# Altium integrated library National Semiconductor LDO.IntLib: 2675 symbols (part 43 of 65)
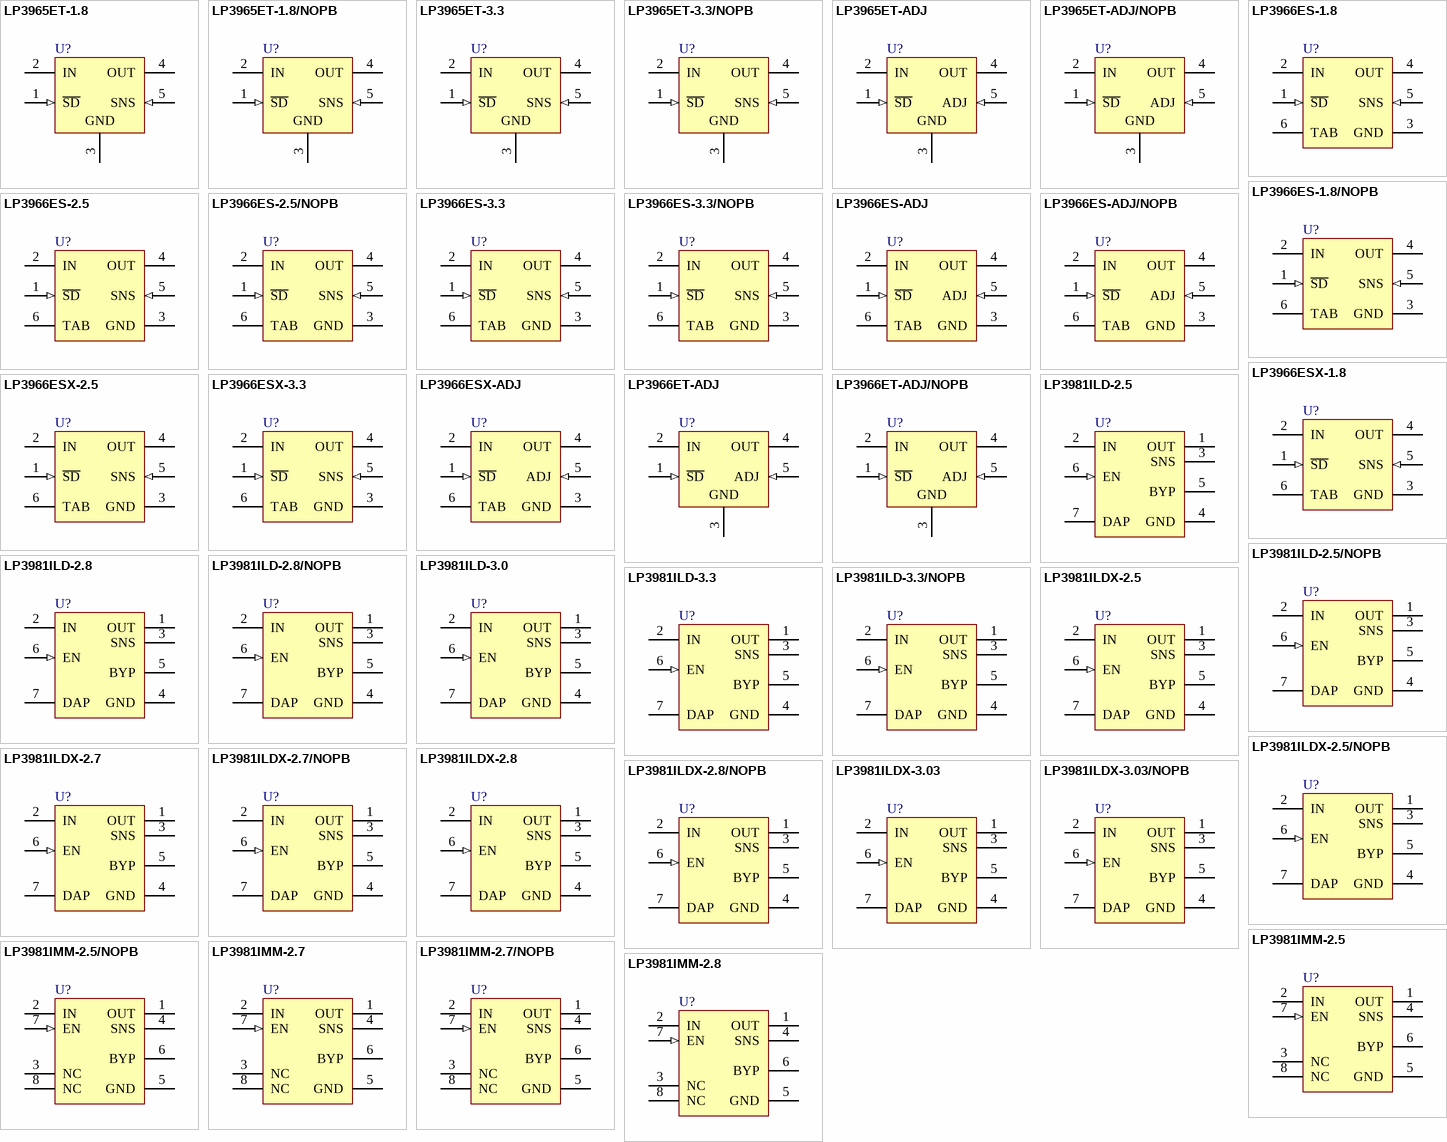
[diagram p109: symbols LP3965ET-1.8 to LP3981IMM-2.8]

## LP3981ILD-2.5
designator U?
Micropower, 300mA Ultra Low-Dropout CMOS Voltage Regulator, 6-pin LLP; PartNumber: LP3981ILD-2.5; Manufacturer: National Semiconductor; PackageTopMarking: ZXYTT*LO1UB; PowerWise: N; CompType: LDO IC; High-Reliability: Y; DatasheetVersion: Apr-2005; PackageVersion: revB, Nov-2002; PackageReference: LDC06D; PackageDescription: LLP, Plastic, Dual, 3 x 4 x 0.75mm Body, 6 Lead, 0.8mm Pitch; RoHS: N; PinCount: 6; ComponentLink1Description: Manufacturer URL; ComponentLink1URL: http://www.national.com/; ComponentLink2Description: LP3981 Datasheet; ComponentLink2URL: http://www.national.com/ds/LP/LP3981.pdf; ComponentLink3Description: LP3981 Web Page; ComponentLink3URL: http://www.national.com/pf/LP/LP3981.html; ComponentLink4Description: LDC06D Package Page; ComponentLink4URL: http://www.national.com/packaging/folders/ldc06d.html
footprint LDC06D (PSON, 6-Leads, Body 3x4 mm, Pitch 0.8mm, NSC Recommended)
pins: 1 OUT (power), 2 IN (power), 3 SNS, 4 GND (power), 5 BYP, 6 EN (in), 7 DAP

## LP3981ILD-2.5/NOPB
designator U?
Micropower, 300mA Ultra Low-Dropout CMOS Voltage Regulator, 6-pin LLP, Pb-Free; PartNumber: LP3981ILD-2.5/NOPB; Manufacturer: National Semiconductor; PackageTopMarking: ZXYTT*LO1UB; PowerWise: N; CompType: LDO IC; High-Reliability: Y; DatasheetVersion: Apr-2005; PackageVersion: revB, Nov-2002; PackageReference: LDC06D; PackageDescription: LLP, Plastic, Dual, 3 x 4 x 0.75mm Body, 6 Lead, 0.8mm Pitch; RoHS: Y; PinCount: 6; ComponentLink1Description: Manufacturer URL; ComponentLink1URL: http://www.national.com/; ComponentLink2Description: LP3981 Datasheet; ComponentLink2URL: http://www.national.com/ds/LP/LP3981.pdf; ComponentLink3Description: LP3981 Web Page; ComponentLink3URL: http://www.national.com/pf/LP/LP3981.html; ComponentLink4Description: LDC06D Package Page; ComponentLink4URL: http://www.national.com/packaging/folders/ldc06d.html
footprint LDC06D (PSON, 6-Leads, Body 3x4 mm, Pitch 0.8mm, NSC Recommended)
pins: 1 OUT (power), 2 IN (power), 3 SNS, 4 GND (power), 5 BYP, 6 EN (in), 7 DAP

## LP3981ILD-2.8
designator U?
Micropower, 300mA Ultra Low-Dropout CMOS Voltage Regulator, 6-pin LLP; PartNumber: LP3981ILD-2.8; Manufacturer: National Semiconductor; PackageTopMarking: ZXYTT*L01ZB; PowerWise: N; CompType: LDO IC; High-Reliability: Y; DatasheetVersion: Apr-2005; PackageVersion: revB, Nov-2002; PackageReference: LDC06D; PackageDescription: LLP, Plastic, Dual, 3 x 4 x 0.75mm Body, 6 Lead, 0.8mm Pitch; RoHS: Y; PinCount: 6; ComponentLink1Description: Manufacturer URL; ComponentLink1URL: http://www.national.com/; ComponentLink2Description: LP3981 Datasheet; ComponentLink2URL: http://www.national.com/ds/LP/LP3981.pdf; ComponentLink3Description: LP3981 Web Page; ComponentLink3URL: http://www.national.com/pf/LP/LP3981.html; ComponentLink4Description: LDC06D Package Page; ComponentLink4URL: http://www.national.com/packaging/folders/ldc06d.html
footprint LDC06D (PSON, 6-Leads, Body 3x4 mm, Pitch 0.8mm, NSC Recommended)
pins: 1 OUT (power), 2 IN (power), 3 SNS, 4 GND (power), 5 BYP, 6 EN (in), 7 DAP

## LP3981ILD-2.8/NOPB
designator U?
Micropower, 300mA Ultra Low-Dropout CMOS Voltage Regulator, 6-pin LLP, Pb-Free; PartNumber: LP3981ILD-2.8/NOPB; Manufacturer: National Semiconductor; PackageTopMarking: ZXYTT*L01ZB; PowerWise: N; CompType: LDO IC; High-Reliability: Y; DatasheetVersion: Apr-2005; PackageVersion: revB, Nov-2002; PackageReference: LDC06D; PackageDescription: LLP, Plastic, Dual, 3 x 4 x 0.75mm Body, 6 Lead, 0.8mm Pitch; RoHS: Y; PinCount: 6; ComponentLink1Description: Manufacturer URL; ComponentLink1URL: http://www.national.com/; ComponentLink2Description: LP3981 Datasheet; ComponentLink2URL: http://www.national.com/ds/LP/LP3981.pdf; ComponentLink3Description: LP3981 Web Page; ComponentLink3URL: http://www.national.com/pf/LP/LP3981.html; ComponentLink4Description: LDC06D Package Page; ComponentLink4URL: http://www.national.com/packaging/folders/ldc06d.html
footprint LDC06D (PSON, 6-Leads, Body 3x4 mm, Pitch 0.8mm, NSC Recommended)
pins: 1 OUT (power), 2 IN (power), 3 SNS, 4 GND (power), 5 BYP, 6 EN (in), 7 DAP

## LP3981ILD-3.0
designator U?
Micropower, 300mA Ultra Low-Dropout CMOS Voltage Regulator, 6-pin LLP; PartNumber: LP3981ILD-3.0; Manufacturer: National Semiconductor; PackageTopMarking: ZXYTT*L017B; PowerWise: N; CompType: LDO IC; High-Reliability: Y; DatasheetVersion: Apr-2005; PackageVersion: revB, Nov-2002; PackageReference: LDC06D; PackageDescription: LLP, Plastic, Dual, 3 x 4 x 0.75mm Body, 6 Lead, 0.8mm Pitch; RoHS: N; PinCount: 6; ComponentLink1Description: Manufacturer URL; ComponentLink1URL: http://www.national.com/; ComponentLink2Description: LP3981 Datasheet; ComponentLink2URL: http://www.national.com/ds/LP/LP3981.pdf; ComponentLink3Description: LP3981 Web Page; ComponentLink3URL: http://www.national.com/pf/LP/LP3981.html; ComponentLink4Description: LDC06D Package Page; ComponentLink4URL: http://www.national.com/packaging/folders/ldc06d.html
footprint LDC06D (PSON, 6-Leads, Body 3x4 mm, Pitch 0.8mm, NSC Recommended)
pins: 1 OUT (power), 2 IN (power), 3 SNS, 4 GND (power), 5 BYP, 6 EN (in), 7 DAP

## LP3981ILD-3.3
designator U?
Micropower, 300mA Ultra Low-Dropout CMOS Voltage Regulator, 6-pin LLP; PartNumber: LP3981ILD-3.3; Manufacturer: National Semiconductor; PackageTopMarking: ZXYTT*LO1XB; PowerWise: N; CompType: LDO IC; High-Reliability: Y; DatasheetVersion: Apr-2005; PackageVersion: revB, Nov-2002; PackageReference: LDC06D; PackageDescription: LLP, Plastic, Dual, 3 x 4 x 0.75mm Body, 6 Lead, 0.8mm Pitch; RoHS: N; PinCount: 6; ComponentLink1Description: Manufacturer URL; ComponentLink1URL: http://www.national.com/; ComponentLink2Description: LP3981 Datasheet; ComponentLink2URL: http://www.national.com/ds/LP/LP3981.pdf; ComponentLink3Description: LP3981 Web Page; ComponentLink3URL: http://www.national.com/pf/LP/LP3981.html; ComponentLink4Description: LDC06D Package Page; ComponentLink4URL: http://www.national.com/packaging/folders/ldc06d.html
footprint LDC06D (PSON, 6-Leads, Body 3x4 mm, Pitch 0.8mm, NSC Recommended)
pins: 1 OUT (power), 2 IN (power), 3 SNS, 4 GND (power), 5 BYP, 6 EN (in), 7 DAP

## LP3981ILD-3.3/NOPB
designator U?
Micropower, 300mA Ultra Low-Dropout CMOS Voltage Regulator, 6-pin LLP, Pb-Free; PartNumber: LP3981ILD-3.3/NOPB; Manufacturer: National Semiconductor; PackageTopMarking: ZXYTT*LO1XB; PowerWise: N; CompType: LDO IC; High-Reliability: Y; DatasheetVersion: Apr-2005; PackageVersion: revB, Nov-2002; PackageReference: LDC06D; PackageDescription: LLP, Plastic, Dual, 3 x 4 x 0.75mm Body, 6 Lead, 0.8mm Pitch; RoHS: Y; PinCount: 6; ComponentLink1Description: Manufacturer URL; ComponentLink1URL: http://www.national.com/; ComponentLink2Description: LP3981 Datasheet; ComponentLink2URL: http://www.national.com/ds/LP/LP3981.pdf; ComponentLink3Description: LP3981 Web Page; ComponentLink3URL: http://www.national.com/pf/LP/LP3981.html; ComponentLink4Description: LDC06D Package Page; ComponentLink4URL: http://www.national.com/packaging/folders/ldc06d.html
footprint LDC06D (PSON, 6-Leads, Body 3x4 mm, Pitch 0.8mm, NSC Recommended)
pins: 1 OUT (power), 2 IN (power), 3 SNS, 4 GND (power), 5 BYP, 6 EN (in), 7 DAP

## LP3981ILDX-2.5
designator U?
Micropower, 300mA Ultra Low-Dropout CMOS Voltage Regulator, 6-pin LLP; PartNumber: LP3981ILDX-2.5; Manufacturer: National Semiconductor; PackageTopMarking: ZXYTT*LO1UB; PowerWise: N; CompType: LDO IC; High-Reliability: Y; DatasheetVersion: Apr-2005; PackageVersion: revB, Nov-2002; PackageReference: LDC06D; PackageDescription: LLP, Plastic, Dual, 3 x 4 x 0.75mm Body, 6 Lead, 0.8mm Pitch; RoHS: N; PinCount: 6; ComponentLink1Description: Manufacturer URL; ComponentLink1URL: http://www.national.com/; ComponentLink2Description: LP3981 Datasheet; ComponentLink2URL: http://www.national.com/ds/LP/LP3981.pdf; ComponentLink3Description: LP3981 Web Page; ComponentLink3URL: http://www.national.com/pf/LP/LP3981.html; ComponentLink4Description: LDC06D Package Page; ComponentLink4URL: http://www.national.com/packaging/folders/ldc06d.html
footprint LDC06D (PSON, 6-Leads, Body 3x4 mm, Pitch 0.8mm, NSC Recommended)
pins: 1 OUT (power), 2 IN (power), 3 SNS, 4 GND (power), 5 BYP, 6 EN (in), 7 DAP

## LP3981ILDX-2.5/NOPB
designator U?
Micropower, 300mA Ultra Low-Dropout CMOS Voltage Regulator, 6-pin LLP, Pb-Free; PartNumber: LP3981ILDX-2.5/NOPB; Manufacturer: National Semiconductor; PackageTopMarking: ZXYTT*LO1UB; PowerWise: N; CompType: LDO IC; High-Reliability: Y; DatasheetVersion: Apr-2005; PackageVersion: revB, Nov-2002; PackageReference: LDC06D; PackageDescription: LLP, Plastic, Dual, 3 x 4 x 0.75mm Body, 6 Lead, 0.8mm Pitch; RoHS: Y; PinCount: 6; ComponentLink1Description: Manufacturer URL; ComponentLink1URL: http://www.national.com/; ComponentLink2Description: LP3981 Datasheet; ComponentLink2URL: http://www.national.com/ds/LP/LP3981.pdf; ComponentLink3Description: LP3981 Web Page; ComponentLink3URL: http://www.national.com/pf/LP/LP3981.html; ComponentLink4Description: LDC06D Package Page; ComponentLink4URL: http://www.national.com/packaging/folders/ldc06d.html
footprint LDC06D (PSON, 6-Leads, Body 3x4 mm, Pitch 0.8mm, NSC Recommended)
pins: 1 OUT (power), 2 IN (power), 3 SNS, 4 GND (power), 5 BYP, 6 EN (in), 7 DAP

## LP3981ILDX-2.7
designator U?
Micropower, 300mA Ultra Low-Dropout CMOS Voltage Regulator, 6-pin LLP; PartNumber: LP3981ILDX-2.7; Manufacturer: National Semiconductor; PackageTopMarking: ZXYTT*LO1VB; PowerWise: N; CompType: LDO IC; High-Reliability: Y; DatasheetVersion: Apr-2005; PackageVersion: revB, Nov-2002; PackageReference: LDC06D; PackageDescription: LLP, Plastic, Dual, 3 x 4 x 0.75mm Body, 6 Lead, 0.8mm Pitch; RoHS: N; PinCount: 6; ComponentLink1Description: Manufacturer URL; ComponentLink1URL: http://www.national.com/; ComponentLink2Description: LP3981 Datasheet; ComponentLink2URL: http://www.national.com/ds/LP/LP3981.pdf; ComponentLink3Description: LP3981 Web Page; ComponentLink3URL: http://www.national.com/pf/LP/LP3981.html; ComponentLink4Description: LDC06D Package Page; ComponentLink4URL: http://www.national.com/packaging/folders/ldc06d.html
footprint LDC06D (PSON, 6-Leads, Body 3x4 mm, Pitch 0.8mm, NSC Recommended)
pins: 1 OUT (power), 2 IN (power), 3 SNS, 4 GND (power), 5 BYP, 6 EN (in), 7 DAP

## LP3981ILDX-2.7/NOPB
designator U?
Micropower, 300mA Ultra Low-Dropout CMOS Voltage Regulator, 6-pin LLP, Pb-Free; PartNumber: LP3981ILDX-2.7/NOPB; Manufacturer: National Semiconductor; PackageTopMarking: ZXYTT*LO1VB; PowerWise: N; CompType: LDO IC; High-Reliability: Y; DatasheetVersion: Apr-2005; PackageVersion: revB, Nov-2002; PackageReference: LDC06D; PackageDescription: LLP, Plastic, Dual, 3 x 4 x 0.75mm Body, 6 Lead, 0.8mm Pitch; RoHS: Y; PinCount: 6; ComponentLink1Description: Manufacturer URL; ComponentLink1URL: http://www.national.com/; ComponentLink2Description: LP3981 Datasheet; ComponentLink2URL: http://www.national.com/ds/LP/LP3981.pdf; ComponentLink3Description: LP3981 Web Page; ComponentLink3URL: http://www.national.com/pf/LP/LP3981.html; ComponentLink4Description: LDC06D Package Page; ComponentLink4URL: http://www.national.com/packaging/folders/ldc06d.html
footprint LDC06D (PSON, 6-Leads, Body 3x4 mm, Pitch 0.8mm, NSC Recommended)
pins: 1 OUT (power), 2 IN (power), 3 SNS, 4 GND (power), 5 BYP, 6 EN (in), 7 DAP

## LP3981ILDX-2.8
designator U?
Micropower, 300mA Ultra Low-Dropout CMOS Voltage Regulator, 6-pin LLP; PartNumber: LP3981ILDX-2.8; Manufacturer: National Semiconductor; PackageTopMarking: ZXYTT*L01ZB; PowerWise: N; CompType: LDO IC; High-Reliability: Y; DatasheetVersion: Apr-2005; PackageVersion: revB, Nov-2002; PackageReference: LDC06D; PackageDescription: LLP, Plastic, Dual, 3 x 4 x 0.75mm Body, 6 Lead, 0.8mm Pitch; RoHS: N; PinCount: 6; ComponentLink1Description: Manufacturer URL; ComponentLink1URL: http://www.national.com/; ComponentLink2Description: LP3981 Datasheet; ComponentLink2URL: http://www.national.com/ds/LP/LP3981.pdf; ComponentLink3Description: LP3981 Web Page; ComponentLink3URL: http://www.national.com/pf/LP/LP3981.html; ComponentLink4Description: LDC06D Package Page; ComponentLink4URL: http://www.national.com/packaging/folders/ldc06d.html
footprint LDC06D (PSON, 6-Leads, Body 3x4 mm, Pitch 0.8mm, NSC Recommended)
pins: 1 OUT (power), 2 IN (power), 3 SNS, 4 GND (power), 5 BYP, 6 EN (in), 7 DAP

## LP3981ILDX-2.8/NOPB
designator U?
Micropower, 300mA Ultra Low-Dropout CMOS Voltage Regulator, 6-pin LLP, Pb-Free; PartNumber: LP3981ILDX-2.8/NOPB; Manufacturer: National Semiconductor; PackageTopMarking: ZXYTT*L01ZB; PowerWise: N; CompType: LDO IC; High-Reliability: Y; DatasheetVersion: Apr-2005; PackageVersion: revB, Nov-2002; PackageReference: LDC06D; PackageDescription: LLP, Plastic, Dual, 3 x 4 x 0.75mm Body, 6 Lead, 0.8mm Pitch; RoHS: Y; PinCount: 6; ComponentLink1Description: Manufacturer URL; ComponentLink1URL: http://www.national.com/; ComponentLink2Description: LP3981 Datasheet; ComponentLink2URL: http://www.national.com/ds/LP/LP3981.pdf; ComponentLink3Description: LP3981 Web Page; ComponentLink3URL: http://www.national.com/pf/LP/LP3981.html; ComponentLink4Description: LDC06D Package Page; ComponentLink4URL: http://www.national.com/packaging/folders/ldc06d.html
footprint LDC06D (PSON, 6-Leads, Body 3x4 mm, Pitch 0.8mm, NSC Recommended)
pins: 1 OUT (power), 2 IN (power), 3 SNS, 4 GND (power), 5 BYP, 6 EN (in), 7 DAP

## LP3981ILDX-3.03
designator U?
Micropower, 300mA Ultra Low-Dropout CMOS Voltage Regulator, 6-pin LLP; PartNumber: LP3981ILDX-3.03; Manufacturer: National Semiconductor; PackageTopMarking: ZXYTT*LO1YB; PowerWise: N; CompType: LDO IC; High-Reliability: Y; DatasheetVersion: Apr-2005; PackageVersion: revB, Nov-2002; PackageReference: LDC06D; PackageDescription: LLP, Plastic, Dual, 3 x 4 x 0.75mm Body, 6 Lead, 0.8mm Pitch; RoHS: Y; PinCount: 6; ComponentLink1Description: Manufacturer URL; ComponentLink1URL: http://www.national.com/; ComponentLink2Description: LP3981 Datasheet; ComponentLink2URL: http://www.national.com/ds/LP/LP3981.pdf; ComponentLink3Description: LP3981 Web Page; ComponentLink3URL: http://www.national.com/pf/LP/LP3981.html; ComponentLink4Description: LDC06D Package Page; ComponentLink4URL: http://www.national.com/packaging/folders/ldc06d.html
footprint LDC06D (PSON, 6-Leads, Body 3x4 mm, Pitch 0.8mm, NSC Recommended)
pins: 1 OUT (power), 2 IN (power), 3 SNS, 4 GND (power), 5 BYP, 6 EN (in), 7 DAP

## LP3981ILDX-3.03/NOPB
designator U?
Micropower, 300mA Ultra Low-Dropout CMOS Voltage Regulator, 6-pin LLP, Pb-Free; PartNumber: LP3981ILDX-3.03/NOPB; Manufacturer: National Semiconductor; PackageTopMarking: ZXYTT*LO1YB; PowerWise: N; CompType: LDO IC; High-Reliability: Y; DatasheetVersion: Apr-2005; PackageVersion: revB, Nov-2002; PackageReference: LDC06D; PackageDescription: LLP, Plastic, Dual, 3 x 4 x 0.75mm Body, 6 Lead, 0.8mm Pitch; RoHS: Y; PinCount: 6; ComponentLink1Description: Manufacturer URL; ComponentLink1URL: http://www.national.com/; ComponentLink2Description: LP3981 Datasheet; ComponentLink2URL: http://www.national.com/ds/LP/LP3981.pdf; ComponentLink3Description: LP3981 Web Page; ComponentLink3URL: http://www.national.com/pf/LP/LP3981.html; ComponentLink4Description: LDC06D Package Page; ComponentLink4URL: http://www.national.com/packaging/folders/ldc06d.html
footprint LDC06D (PSON, 6-Leads, Body 3x4 mm, Pitch 0.8mm, NSC Recommended)
pins: 1 OUT (power), 2 IN (power), 3 SNS, 4 GND (power), 5 BYP, 6 EN (in), 7 DAP

## LP3981IMM-2.5
designator U?
Micropower, 300mA Ultra Low-Dropout CMOS Voltage Regulator, 8-pin Mini SOIC; PartNumber: LP3981IMM-2.5; Manufacturer: National Semiconductor; PackageTopMarking: ZXTT*LFKB; PowerWise: N; CompType: LDO IC; High-Reliability: Y; DatasheetVersion: Apr-2005; PackageVersion: revF, Apr-2008; PackageReference: MUA08A; PackageDescription: MINI SOIC, .118 x .118 x .034in, 8 Lead, .0256in Pitch; RoHS: N; PinCount: 8; Code_JEDEC: MO-187-AA; ComponentLink1Description: Manufacturer URL; ComponentLink1URL: http://www.national.com/; ComponentLink2Description: LP3981 Datasheet; ComponentLink2URL: http://www.national.com/ds/LP/LP3981.pdf; ComponentLink3Description: LP3981 Web Page; ComponentLink3URL: http://www.national.com/pf/LP/LP3981.html; ComponentLink4Description: MUA08A Package Page; ComponentLink4URL: http://www.national.com/packaging/folders/mua08a.html
footprint MUA08A_N (TSOP, 8-Leads, Body 3x3mm, Pitch 0.65mm, IPC Medium Density)
footprint MUA08A_L (TSOP, 8-Leads, Body 3x3mm, Pitch 0.65mm, IPC High Density)
footprint MUA08A_M (TSOP, 8-Leads, Body 3x3mm, Pitch 0.65mm, IPC Low Density)
pins: 1 OUT (power), 2 IN (power), 3 NC, 4 SNS, 5 GND (power), 6 BYP, 7 EN (in), 8 NC

## LP3981IMM-2.5/NOPB
designator U?
Micropower, 300mA Ultra Low-Dropout CMOS Voltage Regulator, 8-pin Mini SOIC, Pb-Free; PartNumber: LP3981IMM-2.5/NOPB; Manufacturer: National Semiconductor; PackageTopMarking: ZXTT*LFKB; PowerWise: N; CompType: LDO IC; High-Reliability: Y; DatasheetVersion: Apr-2005; PackageVersion: revF, Apr-2008; PackageReference: MUA08A; PackageDescription: MINI SOIC, .118 x .118 x .034in, 8 Lead, .0256in Pitch; RoHS: Y; PinCount: 8; Code_JEDEC: MO-187-AA; ComponentLink1Description: Manufacturer URL; ComponentLink1URL: http://www.national.com/; ComponentLink2Description: LP3981 Datasheet; ComponentLink2URL: http://www.national.com/ds/LP/LP3981.pdf; ComponentLink3Description: LP3981 Web Page; ComponentLink3URL: http://www.national.com/pf/LP/LP3981.html; ComponentLink4Description: MUA08A Package Page; ComponentLink4URL: http://www.national.com/packaging/folders/mua08a.html
footprint MUA08A_N (TSOP, 8-Leads, Body 3x3mm, Pitch 0.65mm, IPC Medium Density)
footprint MUA08A_L (TSOP, 8-Leads, Body 3x3mm, Pitch 0.65mm, IPC High Density)
footprint MUA08A_M (TSOP, 8-Leads, Body 3x3mm, Pitch 0.65mm, IPC Low Density)
pins: 1 OUT (power), 2 IN (power), 3 NC, 4 SNS, 5 GND (power), 6 BYP, 7 EN (in), 8 NC

## LP3981IMM-2.7
designator U?
Micropower, 300mA Ultra Low-Dropout CMOS Voltage Regulator, 8-pin Mini SOIC; PartNumber: LP3981IMM-2.7; Manufacturer: National Semiconductor; PackageTopMarking: ZXTT*LFLB; PowerWise: N; CompType: LDO IC; High-Reliability: Y; DatasheetVersion: Apr-2005; PackageVersion: revF, Apr-2008; PackageReference: MUA08A; PackageDescription: MINI SOIC, .118 x .118 x .034in, 8 Lead, .0256in Pitch; RoHS: N; PinCount: 8; Code_JEDEC: MO-187-AA; ComponentLink1Description: Manufacturer URL; ComponentLink1URL: http://www.national.com/; ComponentLink2Description: LP3981 Datasheet; ComponentLink2URL: http://www.national.com/ds/LP/LP3981.pdf; ComponentLink3Description: LP3981 Web Page; ComponentLink3URL: http://www.national.com/pf/LP/LP3981.html; ComponentLink4Description: MUA08A Package Page; ComponentLink4URL: http://www.national.com/packaging/folders/mua08a.html
footprint MUA08A_N (TSOP, 8-Leads, Body 3x3mm, Pitch 0.65mm, IPC Medium Density)
footprint MUA08A_L (TSOP, 8-Leads, Body 3x3mm, Pitch 0.65mm, IPC High Density)
footprint MUA08A_M (TSOP, 8-Leads, Body 3x3mm, Pitch 0.65mm, IPC Low Density)
pins: 1 OUT (power), 2 IN (power), 3 NC, 4 SNS, 5 GND (power), 6 BYP, 7 EN (in), 8 NC

## LP3981IMM-2.7/NOPB
designator U?
Micropower, 300mA Ultra Low-Dropout CMOS Voltage Regulator, 8-pin Mini SOIC, Pb-Free; PartNumber: LP3981IMM-2.7/NOPB; Manufacturer: National Semiconductor; PackageTopMarking: ZXTT*LFLB; PowerWise: N; CompType: LDO IC; High-Reliability: Y; DatasheetVersion: Apr-2005; PackageVersion: revF, Apr-2008; PackageReference: MUA08A; PackageDescription: MINI SOIC, .118 x .118 x .034in, 8 Lead, .0256in Pitch; RoHS: Y; PinCount: 8; Code_JEDEC: MO-187-AA; ComponentLink1Description: Manufacturer URL; ComponentLink1URL: http://www.national.com/; ComponentLink2Description: LP3981 Datasheet; ComponentLink2URL: http://www.national.com/ds/LP/LP3981.pdf; ComponentLink3Description: LP3981 Web Page; ComponentLink3URL: http://www.national.com/pf/LP/LP3981.html; ComponentLink4Description: MUA08A Package Page; ComponentLink4URL: http://www.national.com/packaging/folders/mua08a.html
footprint MUA08A_N (TSOP, 8-Leads, Body 3x3mm, Pitch 0.65mm, IPC Medium Density)
footprint MUA08A_L (TSOP, 8-Leads, Body 3x3mm, Pitch 0.65mm, IPC High Density)
footprint MUA08A_M (TSOP, 8-Leads, Body 3x3mm, Pitch 0.65mm, IPC Low Density)
pins: 1 OUT (power), 2 IN (power), 3 NC, 4 SNS, 5 GND (power), 6 BYP, 7 EN (in), 8 NC

## LP3981IMM-2.8
designator U?
Micropower, 300mA Ultra Low-Dropout CMOS Voltage Regulator, 8-pin Mini SOIC; PartNumber: LP3981IMM-2.8; Manufacturer: National Semiconductor; PackageTopMarking: ZXTT*LFTB; PowerWise: N; CompType: LDO IC; High-Reliability: Y; DatasheetVersion: Apr-2005; PackageVersion: revF, Apr-2008; PackageReference: MUA08A; PackageDescription: MINI SOIC, .118 x .118 x .034in, 8 Lead, .0256in Pitch; RoHS: N; PinCount: 8; Code_JEDEC: MO-187-AA; ComponentLink1Description: Manufacturer URL; ComponentLink1URL: http://www.national.com/; ComponentLink2Description: LP3981 Datasheet; ComponentLink2URL: http://www.national.com/ds/LP/LP3981.pdf; ComponentLink3Description: LP3981 Web Page; ComponentLink3URL: http://www.national.com/pf/LP/LP3981.html; ComponentLink4Description: MUA08A Package Page; ComponentLink4URL: http://www.national.com/packaging/folders/mua08a.html
footprint MUA08A_N (TSOP, 8-Leads, Body 3x3mm, Pitch 0.65mm, IPC Medium Density)
footprint MUA08A_L (TSOP, 8-Leads, Body 3x3mm, Pitch 0.65mm, IPC High Density)
footprint MUA08A_M (TSOP, 8-Leads, Body 3x3mm, Pitch 0.65mm, IPC Low Density)
pins: 1 OUT (power), 2 IN (power), 3 NC, 4 SNS, 5 GND (power), 6 BYP, 7 EN (in), 8 NC

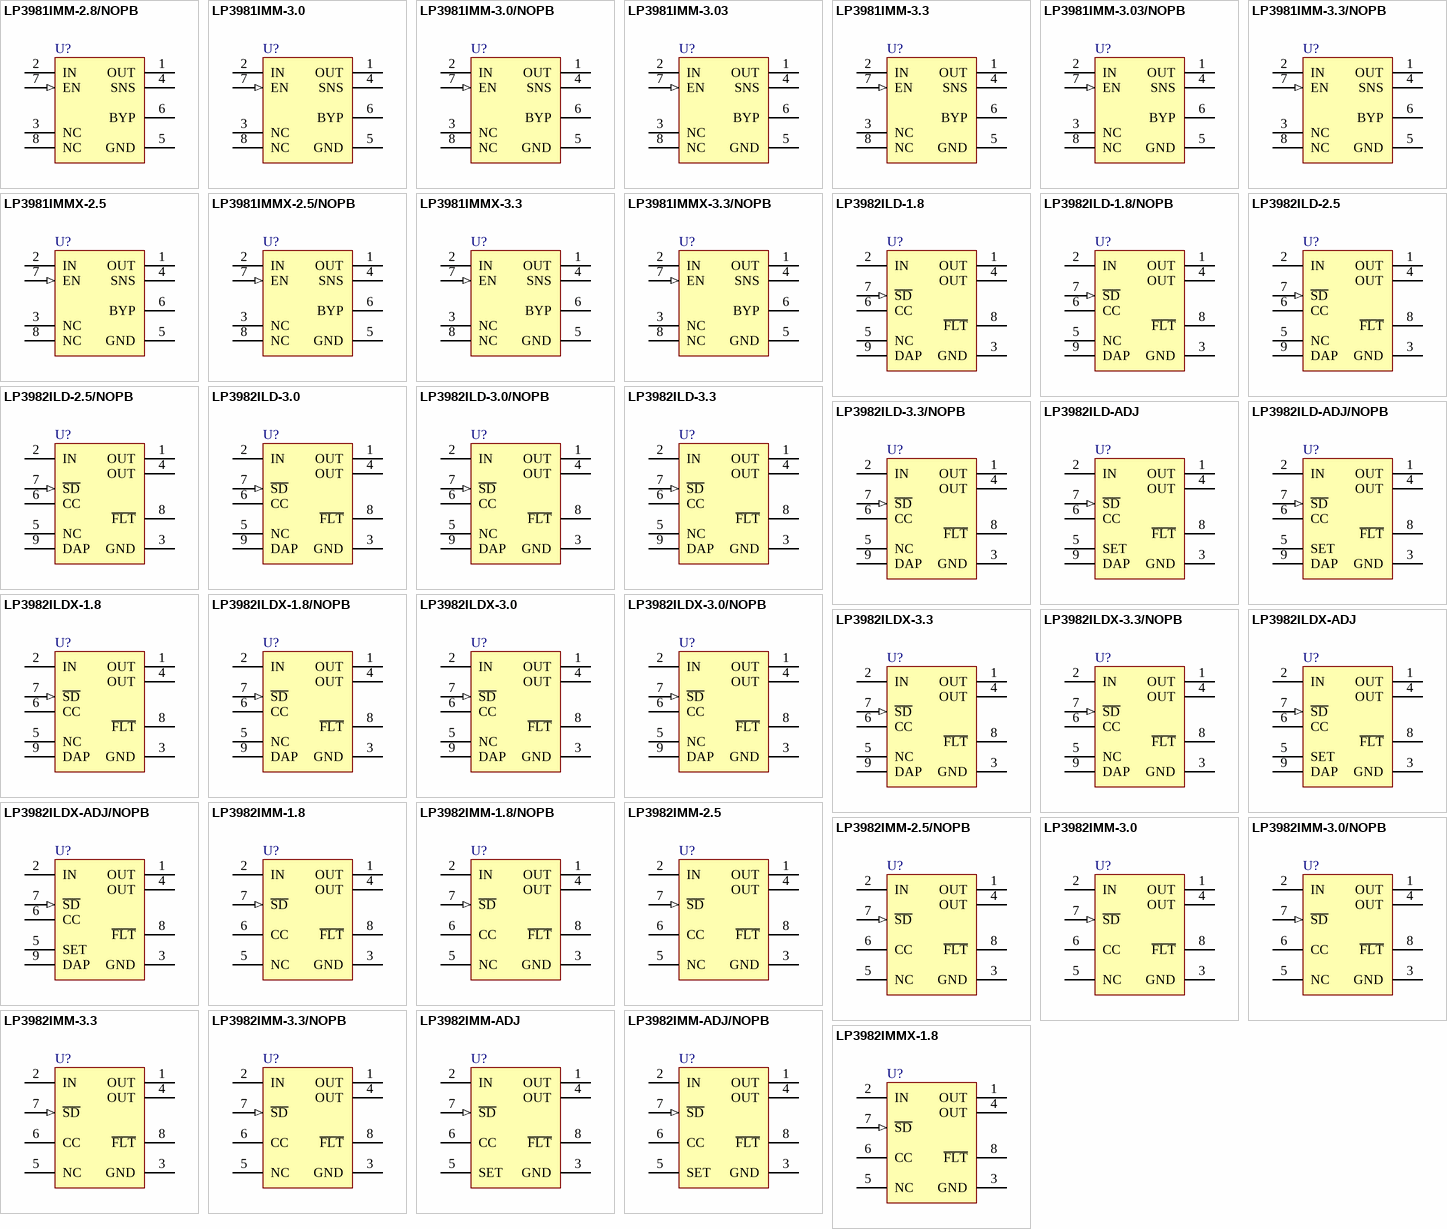
[diagram p44: symbols LP3981IMM-2.8/NOPB to LP3982IMMX-1.8]

## LP3981IMM-2.8/NOPB
designator U?
Micropower, 300mA Ultra Low-Dropout CMOS Voltage Regulator, 8-pin Mini SOIC, Pb-Free; PartNumber: LP3981IMM-2.8/NOPB; Manufacturer: National Semiconductor; PackageTopMarking: ZXTT*LFTB; PowerWise: N; CompType: LDO IC; High-Reliability: Y; DatasheetVersion: Apr-2005; PackageVersion: revF, Apr-2008; PackageReference: MUA08A; PackageDescription: MINI SOIC, .118 x .118 x .034in, 8 Lead, .0256in Pitch; RoHS: Y; PinCount: 8; Code_JEDEC: MO-187-AA; ComponentLink1Description: Manufacturer URL; ComponentLink1URL: http://www.national.com/; ComponentLink2Description: LP3981 Datasheet; ComponentLink2URL: http://www.national.com/ds/LP/LP3981.pdf; ComponentLink3Description: LP3981 Web Page; ComponentLink3URL: http://www.national.com/pf/LP/LP3981.html; ComponentLink4Description: MUA08A Package Page; ComponentLink4URL: http://www.national.com/packaging/folders/mua08a.html
footprint MUA08A_N (TSOP, 8-Leads, Body 3x3mm, Pitch 0.65mm, IPC Medium Density)
footprint MUA08A_L (TSOP, 8-Leads, Body 3x3mm, Pitch 0.65mm, IPC High Density)
footprint MUA08A_M (TSOP, 8-Leads, Body 3x3mm, Pitch 0.65mm, IPC Low Density)
pins: 1 OUT (power), 2 IN (power), 3 NC, 4 SNS, 5 GND (power), 6 BYP, 7 EN (in), 8 NC

## LP3981IMM-3.0
designator U?
Micropower, 300mA Ultra Low-Dropout CMOS Voltage Regulator, 8-pin Mini SOIC; PartNumber: LP3981IMM-3.0; Manufacturer: National Semiconductor; PackageTopMarking: ZXTT*LF3B; PowerWise: N; CompType: LDO IC; High-Reliability: Y; DatasheetVersion: Apr-2005; PackageVersion: revF, Apr-2008; PackageReference: MUA08A; PackageDescription: MINI SOIC, .118 x .118 x .034in, 8 Lead, .0256in Pitch; RoHS: N; PinCount: 8; Code_JEDEC: MO-187-AA; ComponentLink1Description: Manufacturer URL; ComponentLink1URL: http://www.national.com/; ComponentLink2Description: LP3981 Datasheet; ComponentLink2URL: http://www.national.com/ds/LP/LP3981.pdf; ComponentLink3Description: LP3981 Web Page; ComponentLink3URL: http://www.national.com/pf/LP/LP3981.html; ComponentLink4Description: MUA08A Package Page; ComponentLink4URL: http://www.national.com/packaging/folders/mua08a.html
footprint MUA08A_N (TSOP, 8-Leads, Body 3x3mm, Pitch 0.65mm, IPC Medium Density)
footprint MUA08A_L (TSOP, 8-Leads, Body 3x3mm, Pitch 0.65mm, IPC High Density)
footprint MUA08A_M (TSOP, 8-Leads, Body 3x3mm, Pitch 0.65mm, IPC Low Density)
pins: 1 OUT (power), 2 IN (power), 3 NC, 4 SNS, 5 GND (power), 6 BYP, 7 EN (in), 8 NC

## LP3981IMM-3.0/NOPB
designator U?
Micropower, 300mA Ultra Low-Dropout CMOS Voltage Regulator, 8-pin Mini SOIC, Pb-Free; PartNumber: LP3981IMM-3.0/NOPB; Manufacturer: National Semiconductor; PackageTopMarking: ZXTT*LF3B; PowerWise: N; CompType: LDO IC; High-Reliability: Y; DatasheetVersion: Apr-2005; PackageVersion: revF, Apr-2008; PackageReference: MUA08A; PackageDescription: MINI SOIC, .118 x .118 x .034in, 8 Lead, .0256in Pitch; RoHS: Y; PinCount: 8; Code_JEDEC: MO-187-AA; ComponentLink1Description: Manufacturer URL; ComponentLink1URL: http://www.national.com/; ComponentLink2Description: LP3981 Datasheet; ComponentLink2URL: http://www.national.com/ds/LP/LP3981.pdf; ComponentLink3Description: LP3981 Web Page; ComponentLink3URL: http://www.national.com/pf/LP/LP3981.html; ComponentLink4Description: MUA08A Package Page; ComponentLink4URL: http://www.national.com/packaging/folders/mua08a.html
footprint MUA08A_N (TSOP, 8-Leads, Body 3x3mm, Pitch 0.65mm, IPC Medium Density)
footprint MUA08A_L (TSOP, 8-Leads, Body 3x3mm, Pitch 0.65mm, IPC High Density)
footprint MUA08A_M (TSOP, 8-Leads, Body 3x3mm, Pitch 0.65mm, IPC Low Density)
pins: 1 OUT (power), 2 IN (power), 3 NC, 4 SNS, 5 GND (power), 6 BYP, 7 EN (in), 8 NC

## LP3981IMM-3.03
designator U?
Micropower, 300mA Ultra Low-Dropout CMOS Voltage Regulator, 8-pin Mini SOIC; PartNumber: LP3981IMM-3.03; Manufacturer: National Semiconductor; PackageTopMarking: ZXTT*LFPB; PowerWise: N; CompType: LDO IC; High-Reliability: Y; DatasheetVersion: Apr-2005; PackageVersion: revF, Apr-2008; PackageReference: MUA08A; PackageDescription: MINI SOIC, .118 x .118 x .034in, 8 Lead, .0256in Pitch; RoHS: N; PinCount: 8; Code_JEDEC: MO-187-AA; ComponentLink1Description: Manufacturer URL; ComponentLink1URL: http://www.national.com/; ComponentLink2Description: LP3981 Datasheet; ComponentLink2URL: http://www.national.com/ds/LP/LP3981.pdf; ComponentLink3Description: LP3981 Web Page; ComponentLink3URL: http://www.national.com/pf/LP/LP3981.html; ComponentLink4Description: MUA08A Package Page; ComponentLink4URL: http://www.national.com/packaging/folders/mua08a.html
footprint MUA08A_N (TSOP, 8-Leads, Body 3x3mm, Pitch 0.65mm, IPC Medium Density)
footprint MUA08A_L (TSOP, 8-Leads, Body 3x3mm, Pitch 0.65mm, IPC High Density)
footprint MUA08A_M (TSOP, 8-Leads, Body 3x3mm, Pitch 0.65mm, IPC Low Density)
pins: 1 OUT (power), 2 IN (power), 3 NC, 4 SNS, 5 GND (power), 6 BYP, 7 EN (in), 8 NC

## LP3981IMM-3.3
designator U?
Micropower, 300mA Ultra Low-Dropout CMOS Voltage Regulator, 8-pin Mini SOIC; PartNumber: LP3981IMM-3.3; Manufacturer: National Semiconductor; PackageTopMarking: ZXTT*LFNB; PowerWise: N; CompType: LDO IC; High-Reliability: Y; DatasheetVersion: Apr-2005; PackageVersion: revF, Apr-2008; PackageReference: MUA08A; PackageDescription: MINI SOIC, .118 x .118 x .034in, 8 Lead, .0256in Pitch; RoHS: N; PinCount: 8; Code_JEDEC: MO-187-AA; ComponentLink1Description: Manufacturer URL; ComponentLink1URL: http://www.national.com/; ComponentLink2Description: LP3981 Datasheet; ComponentLink2URL: http://www.national.com/ds/LP/LP3981.pdf; ComponentLink3Description: LP3981 Web Page; ComponentLink3URL: http://www.national.com/pf/LP/LP3981.html; ComponentLink4Description: MUA08A Package Page; ComponentLink4URL: http://www.national.com/packaging/folders/mua08a.html
footprint MUA08A_N (TSOP, 8-Leads, Body 3x3mm, Pitch 0.65mm, IPC Medium Density)
footprint MUA08A_L (TSOP, 8-Leads, Body 3x3mm, Pitch 0.65mm, IPC High Density)
footprint MUA08A_M (TSOP, 8-Leads, Body 3x3mm, Pitch 0.65mm, IPC Low Density)
pins: 1 OUT (power), 2 IN (power), 3 NC, 4 SNS, 5 GND (power), 6 BYP, 7 EN (in), 8 NC

## LP3981IMM-3.03/NOPB
designator U?
Micropower, 300mA Ultra Low-Dropout CMOS Voltage Regulator, 8-pin Mini SOIC, Pb-Free; PartNumber: LP3981IMM-3.03/NOPB; Manufacturer: National Semiconductor; PackageTopMarking: ZXTT*LFPB; PowerWise: N; CompType: LDO IC; High-Reliability: Y; DatasheetVersion: Apr-2005; PackageVersion: revF, Apr-2008; PackageReference: MUA08A; PackageDescription: MINI SOIC, .118 x .118 x .034in, 8 Lead, .0256in Pitch; RoHS: Y; PinCount: 8; Code_JEDEC: MO-187-AA; ComponentLink1Description: Manufacturer URL; ComponentLink1URL: http://www.national.com/; ComponentLink2Description: LP3981 Datasheet; ComponentLink2URL: http://www.national.com/ds/LP/LP3981.pdf; ComponentLink3Description: LP3981 Web Page; ComponentLink3URL: http://www.national.com/pf/LP/LP3981.html; ComponentLink4Description: MUA08A Package Page; ComponentLink4URL: http://www.national.com/packaging/folders/mua08a.html
footprint MUA08A_N (TSOP, 8-Leads, Body 3x3mm, Pitch 0.65mm, IPC Medium Density)
footprint MUA08A_L (TSOP, 8-Leads, Body 3x3mm, Pitch 0.65mm, IPC High Density)
footprint MUA08A_M (TSOP, 8-Leads, Body 3x3mm, Pitch 0.65mm, IPC Low Density)
pins: 1 OUT (power), 2 IN (power), 3 NC, 4 SNS, 5 GND (power), 6 BYP, 7 EN (in), 8 NC

## LP3981IMM-3.3/NOPB
designator U?
Micropower, 300mA Ultra Low-Dropout CMOS Voltage Regulator, 8-pin Mini SOIC, Pb-Free; PartNumber: LP3981IMM-3.3/NOPB; Manufacturer: National Semiconductor; PackageTopMarking: ZXTT*LFNB; PowerWise: N; CompType: LDO IC; High-Reliability: Y; DatasheetVersion: Apr-2005; PackageVersion: revF, Apr-2008; PackageReference: MUA08A; PackageDescription: MINI SOIC, .118 x .118 x .034in, 8 Lead, .0256in Pitch; RoHS: Y; PinCount: 8; Code_JEDEC: MO-187-AA; ComponentLink1Description: Manufacturer URL; ComponentLink1URL: http://www.national.com/; ComponentLink2Description: LP3981 Datasheet; ComponentLink2URL: http://www.national.com/ds/LP/LP3981.pdf; ComponentLink3Description: LP3981 Web Page; ComponentLink3URL: http://www.national.com/pf/LP/LP3981.html; ComponentLink4Description: MUA08A Package Page; ComponentLink4URL: http://www.national.com/packaging/folders/mua08a.html
footprint MUA08A_N (TSOP, 8-Leads, Body 3x3mm, Pitch 0.65mm, IPC Medium Density)
footprint MUA08A_L (TSOP, 8-Leads, Body 3x3mm, Pitch 0.65mm, IPC High Density)
footprint MUA08A_M (TSOP, 8-Leads, Body 3x3mm, Pitch 0.65mm, IPC Low Density)
pins: 1 OUT (power), 2 IN (power), 3 NC, 4 SNS, 5 GND (power), 6 BYP, 7 EN (in), 8 NC

## LP3981IMMX-2.5
designator U?
Micropower, 300mA Ultra Low-Dropout CMOS Voltage Regulator, 8-pin Mini SOIC; PartNumber: LP3981IMMX-2.5; Manufacturer: National Semiconductor; PackageTopMarking: ZXTT*LFKB; PowerWise: N; CompType: LDO IC; High-Reliability: Y; DatasheetVersion: Apr-2005; PackageVersion: revF, Apr-2008; PackageReference: MUA08A; PackageDescription: MINI SOIC, .118 x .118 x .034in, 8 Lead, .0256in Pitch; RoHS: N; PinCount: 8; Code_JEDEC: MO-187-AA; ComponentLink1Description: Manufacturer URL; ComponentLink1URL: http://www.national.com/; ComponentLink2Description: LP3981 Datasheet; ComponentLink2URL: http://www.national.com/ds/LP/LP3981.pdf; ComponentLink3Description: LP3981 Web Page; ComponentLink3URL: http://www.national.com/pf/LP/LP3981.html; ComponentLink4Description: MUA08A Package Page; ComponentLink4URL: http://www.national.com/packaging/folders/mua08a.html
footprint MUA08A_N (TSOP, 8-Leads, Body 3x3mm, Pitch 0.65mm, IPC Medium Density)
footprint MUA08A_L (TSOP, 8-Leads, Body 3x3mm, Pitch 0.65mm, IPC High Density)
footprint MUA08A_M (TSOP, 8-Leads, Body 3x3mm, Pitch 0.65mm, IPC Low Density)
pins: 1 OUT (power), 2 IN (power), 3 NC, 4 SNS, 5 GND (power), 6 BYP, 7 EN (in), 8 NC

## LP3981IMMX-2.5/NOPB
designator U?
Micropower, 300mA Ultra Low-Dropout CMOS Voltage Regulator, 8-pin Mini SOIC, Pb-Free; PartNumber: LP3981IMMX-2.5/NOPB; Manufacturer: National Semiconductor; PackageTopMarking: ZXTT*LFKB; PowerWise: N; CompType: LDO IC; High-Reliability: Y; DatasheetVersion: Apr-2005; PackageVersion: revF, Apr-2008; PackageReference: MUA08A; PackageDescription: MINI SOIC, .118 x .118 x .034in, 8 Lead, .0256in Pitch; RoHS: Y; PinCount: 8; Code_JEDEC: MO-187-AA; ComponentLink1Description: Manufacturer URL; ComponentLink1URL: http://www.national.com/; ComponentLink2Description: LP3981 Datasheet; ComponentLink2URL: http://www.national.com/ds/LP/LP3981.pdf; ComponentLink3Description: LP3981 Web Page; ComponentLink3URL: http://www.national.com/pf/LP/LP3981.html; ComponentLink4Description: MUA08A Package Page; ComponentLink4URL: http://www.national.com/packaging/folders/mua08a.html
footprint MUA08A_N (TSOP, 8-Leads, Body 3x3mm, Pitch 0.65mm, IPC Medium Density)
footprint MUA08A_L (TSOP, 8-Leads, Body 3x3mm, Pitch 0.65mm, IPC High Density)
footprint MUA08A_M (TSOP, 8-Leads, Body 3x3mm, Pitch 0.65mm, IPC Low Density)
pins: 1 OUT (power), 2 IN (power), 3 NC, 4 SNS, 5 GND (power), 6 BYP, 7 EN (in), 8 NC

## LP3981IMMX-3.3
designator U?
Micropower, 300mA Ultra Low-Dropout CMOS Voltage Regulator, 8-pin Mini SOIC; PartNumber: LP3981IMMX-3.3; Manufacturer: National Semiconductor; PackageTopMarking: ZXTT*LFNB; PowerWise: N; CompType: LDO IC; High-Reliability: Y; DatasheetVersion: Apr-2005; PackageVersion: revF, Apr-2008; PackageReference: MUA08A; PackageDescription: MINI SOIC, .118 x .118 x .034in, 8 Lead, .0256in Pitch; RoHS: N; PinCount: 8; Code_JEDEC: MO-187-AA; ComponentLink1Description: Manufacturer URL; ComponentLink1URL: http://www.national.com/; ComponentLink2Description: LP3981 Datasheet; ComponentLink2URL: http://www.national.com/ds/LP/LP3981.pdf; ComponentLink3Description: LP3981 Web Page; ComponentLink3URL: http://www.national.com/pf/LP/LP3981.html; ComponentLink4Description: MUA08A Package Page; ComponentLink4URL: http://www.national.com/packaging/folders/mua08a.html
footprint MUA08A_N (TSOP, 8-Leads, Body 3x3mm, Pitch 0.65mm, IPC Medium Density)
footprint MUA08A_L (TSOP, 8-Leads, Body 3x3mm, Pitch 0.65mm, IPC High Density)
footprint MUA08A_M (TSOP, 8-Leads, Body 3x3mm, Pitch 0.65mm, IPC Low Density)
pins: 1 OUT (power), 2 IN (power), 3 NC, 4 SNS, 5 GND (power), 6 BYP, 7 EN (in), 8 NC

## LP3981IMMX-3.3/NOPB
designator U?
Micropower, 300mA Ultra Low-Dropout CMOS Voltage Regulator, 8-pin Mini SOIC, Pb-Free; PartNumber: LP3981IMMX-3.3/NOPB; Manufacturer: National Semiconductor; PackageTopMarking: ZXTT*LFNB; PowerWise: N; CompType: LDO IC; High-Reliability: Y; DatasheetVersion: Apr-2005; PackageVersion: revF, Apr-2008; PackageReference: MUA08A; PackageDescription: MINI SOIC, .118 x .118 x .034in, 8 Lead, .0256in Pitch; RoHS: Y; PinCount: 8; Code_JEDEC: MO-187-AA; ComponentLink1Description: Manufacturer URL; ComponentLink1URL: http://www.national.com/; ComponentLink2Description: LP3981 Datasheet; ComponentLink2URL: http://www.national.com/ds/LP/LP3981.pdf; ComponentLink3Description: LP3981 Web Page; ComponentLink3URL: http://www.national.com/pf/LP/LP3981.html; ComponentLink4Description: MUA08A Package Page; ComponentLink4URL: http://www.national.com/packaging/folders/mua08a.html
footprint MUA08A_N (TSOP, 8-Leads, Body 3x3mm, Pitch 0.65mm, IPC Medium Density)
footprint MUA08A_L (TSOP, 8-Leads, Body 3x3mm, Pitch 0.65mm, IPC High Density)
footprint MUA08A_M (TSOP, 8-Leads, Body 3x3mm, Pitch 0.65mm, IPC Low Density)
pins: 1 OUT (power), 2 IN (power), 3 NC, 4 SNS, 5 GND (power), 6 BYP, 7 EN (in), 8 NC

## LP3982ILD-1.8
designator U?
Micropower, Ultra Low-Dropout, Low-Noise, 300mA CMOS Regulator, 8-pin LLP; PartNumber: LP3982ILD-1.8; Manufacturer: National Semiconductor; PackageTopMarking: XYTT*LNB; PowerWise: N; CompType: LDO IC; High-Reliability: Y; DatasheetVersion: Mar-2006; PackageVersion: revB, Jun-2003; PackageReference: LDA08C; PackageDescription: LLP, Plastic, Dual, 2.5 x 3 x 0.75mm, 8 Lead, 0.5mm Pitch; RoHS: N; PinCount: 8; Code_JEDEC: MO-229-WDED; ComponentLink1Description: Manufacturer URL; ComponentLink1URL: http://www.national.com/; ComponentLink2Description: LP3982 Datasheet; ComponentLink2URL: http://www.national.com/ds/LP/LP3982.pdf; ComponentLink3Description: LP3982 Web Page; ComponentLink3URL: http://www.national.com/pf/LP/LP3982.html; ComponentLink4Description: LDA08C Package Page; ComponentLink4URL: http://www.national.com/packaging/folders/lda08c.html
footprint LDA08C (PSON, 8-Leads, Body 2.5x3mm, Pitch 0.5mm, NSC Recommended)
pins: 1 OUT (power), 2 IN (power), 3 GND (power), 4 OUT (power), 5 NC, 6 CC, 7 ~{SD} (in), 8 ~{FLT} (oc), 9 DAP (power)

## LP3982ILD-1.8/NOPB
designator U?
Micropower, Ultra Low-Dropout, Low-Noise, 300mA CMOS Regulator, 8-pin LLP, Pb-Free; PartNumber: LP3982ILD-1.8/NOPB; Manufacturer: National Semiconductor; PackageTopMarking: XYTT*LNB; PowerWise: N; CompType: LDO IC; High-Reliability: Y; DatasheetVersion: Mar-2006; PackageVersion: revB, Jun-2003; PackageReference: LDA08C; PackageDescription: LLP, Plastic, Dual, 2.5 x 3 x 0.75mm, 8 Lead, 0.5mm Pitch; RoHS: Y; PinCount: 8; Code_JEDEC: MO-229-WDED; ComponentLink1Description: Manufacturer URL; ComponentLink1URL: http://www.national.com/; ComponentLink2Description: LP3982 Datasheet; ComponentLink2URL: http://www.national.com/ds/LP/LP3982.pdf; ComponentLink3Description: LP3982 Web Page; ComponentLink3URL: http://www.national.com/pf/LP/LP3982.html; ComponentLink4Description: LDA08C Package Page; ComponentLink4URL: http://www.national.com/packaging/folders/lda08c.html
footprint LDA08C (PSON, 8-Leads, Body 2.5x3mm, Pitch 0.5mm, NSC Recommended)
pins: 1 OUT (power), 2 IN (power), 3 GND (power), 4 OUT (power), 5 NC, 6 CC, 7 ~{SD} (in), 8 ~{FLT} (oc), 9 DAP (power)

## LP3982ILD-2.5
designator U?
Micropower, Ultra Low-Dropout, Low-Noise, 300mA CMOS Regulator, 8-pin LLP; PartNumber: LP3982ILD-2.5; Manufacturer: National Semiconductor; PackageTopMarking: XYTT*LPB; PowerWise: N; CompType: LDO IC; High-Reliability: Y; DatasheetVersion: Mar-2006; PackageVersion: revB, Jun-2003; PackageReference: LDA08C; PackageDescription: LLP, Plastic, Dual, 2.5 x 3 x 0.75mm, 8 Lead, 0.5mm Pitch; RoHS: N; PinCount: 8; Code_JEDEC: MO-229-WDED; ComponentLink1Description: Manufacturer URL; ComponentLink1URL: http://www.national.com/; ComponentLink2Description: LP3982 Datasheet; ComponentLink2URL: http://www.national.com/ds/LP/LP3982.pdf; ComponentLink3Description: LP3982 Web Page; ComponentLink3URL: http://www.national.com/pf/LP/LP3982.html; ComponentLink4Description: LDA08C Package Page; ComponentLink4URL: http://www.national.com/packaging/folders/lda08c.html
footprint LDA08C (PSON, 8-Leads, Body 2.5x3mm, Pitch 0.5mm, NSC Recommended)
pins: 1 OUT (power), 2 IN (power), 3 GND (power), 4 OUT (power), 5 NC, 6 CC, 7 ~{SD} (in), 8 ~{FLT} (oc), 9 DAP (power)

## LP3982ILD-2.5/NOPB
designator U?
Micropower, Ultra Low-Dropout, Low-Noise, 300mA CMOS Regulator, 8-pin LLP, Pb-Free; PartNumber: LP3982ILD-2.5/NOPB; Manufacturer: National Semiconductor; PackageTopMarking: XYTT*LPB; PowerWise: N; CompType: LDO IC; High-Reliability: Y; DatasheetVersion: Mar-2006; PackageVersion: revB, Jun-2003; PackageReference: LDA08C; PackageDescription: LLP, Plastic, Dual, 2.5 x 3 x 0.75mm, 8 Lead, 0.5mm Pitch; RoHS: Y; PinCount: 8; Code_JEDEC: MO-229-WDED; ComponentLink1Description: Manufacturer URL; ComponentLink1URL: http://www.national.com/; ComponentLink2Description: LP3982 Datasheet; ComponentLink2URL: http://www.national.com/ds/LP/LP3982.pdf; ComponentLink3Description: LP3982 Web Page; ComponentLink3URL: http://www.national.com/pf/LP/LP3982.html; ComponentLink4Description: LDA08C Package Page; ComponentLink4URL: http://www.national.com/packaging/folders/lda08c.html
footprint LDA08C (PSON, 8-Leads, Body 2.5x3mm, Pitch 0.5mm, NSC Recommended)
pins: 1 OUT (power), 2 IN (power), 3 GND (power), 4 OUT (power), 5 NC, 6 CC, 7 ~{SD} (in), 8 ~{FLT} (oc), 9 DAP (power)

## LP3982ILD-3.0
designator U?
Micropower, Ultra Low-Dropout, Low-Noise, 300mA CMOS Regulator, 8-pin LLP; PartNumber: LP3982ILD-3.0; Manufacturer: National Semiconductor; PackageTopMarking: XYTT*LTB; PowerWise: N; CompType: LDO IC; High-Reliability: Y; DatasheetVersion: Mar-2006; PackageVersion: revB, Jun-2003; PackageReference: LDA08C; PackageDescription: LLP, Plastic, Dual, 2.5 x 3 x 0.75mm, 8 Lead, 0.5mm Pitch; RoHS: N; PinCount: 8; Code_JEDEC: MO-229-WDED; ComponentLink1Description: Manufacturer URL; ComponentLink1URL: http://www.national.com/; ComponentLink2Description: LP3982 Datasheet; ComponentLink2URL: http://www.national.com/ds/LP/LP3982.pdf; ComponentLink3Description: LP3982 Web Page; ComponentLink3URL: http://www.national.com/pf/LP/LP3982.html; ComponentLink4Description: LDA08C Package Page; ComponentLink4URL: http://www.national.com/packaging/folders/lda08c.html
footprint LDA08C (PSON, 8-Leads, Body 2.5x3mm, Pitch 0.5mm, NSC Recommended)
pins: 1 OUT (power), 2 IN (power), 3 GND (power), 4 OUT (power), 5 NC, 6 CC, 7 ~{SD} (in), 8 ~{FLT} (oc), 9 DAP (power)

## LP3982ILD-3.0/NOPB
designator U?
Micropower, Ultra Low-Dropout, Low-Noise, 300mA CMOS Regulator, 8-pin LLP, Pb-Free; PartNumber: LP3982ILD-3.0/NOPB; Manufacturer: National Semiconductor; PackageTopMarking: XYTT*LTB; PowerWise: N; CompType: LDO IC; High-Reliability: Y; DatasheetVersion: Mar-2006; PackageVersion: revB, Jun-2003; PackageReference: LDA08C; PackageDescription: LLP, Plastic, Dual, 2.5 x 3 x 0.75mm, 8 Lead, 0.5mm Pitch; RoHS: Y; PinCount: 8; Code_JEDEC: MO-229-WDED; ComponentLink1Description: Manufacturer URL; ComponentLink1URL: http://www.national.com/; ComponentLink2Description: LP3982 Datasheet; ComponentLink2URL: http://www.national.com/ds/LP/LP3982.pdf; ComponentLink3Description: LP3982 Web Page; ComponentLink3URL: http://www.national.com/pf/LP/LP3982.html; ComponentLink4Description: LDA08C Package Page; ComponentLink4URL: http://www.national.com/packaging/folders/lda08c.html
footprint LDA08C (PSON, 8-Leads, Body 2.5x3mm, Pitch 0.5mm, NSC Recommended)
pins: 1 OUT (power), 2 IN (power), 3 GND (power), 4 OUT (power), 5 NC, 6 CC, 7 ~{SD} (in), 8 ~{FLT} (oc), 9 DAP (power)

## LP3982ILD-3.3
designator U?
Micropower, Ultra Low-Dropout, Low-Noise, 300mA CMOS Regulator, 8-pin LLP; PartNumber: LP3982ILD-3.3; Manufacturer: National Semiconductor; PackageTopMarking: XYTT*LUB; PowerWise: N; CompType: LDO IC; High-Reliability: Y; DatasheetVersion: Mar-2006; PackageVersion: revB, Jun-2003; PackageReference: LDA08C; PackageDescription: LLP, Plastic, Dual, 2.5 x 3 x 0.75mm, 8 Lead, 0.5mm Pitch; RoHS: N; PinCount: 8; Code_JEDEC: MO-229-WDED; ComponentLink1Description: Manufacturer URL; ComponentLink1URL: http://www.national.com/; ComponentLink2Description: LP3982 Datasheet; ComponentLink2URL: http://www.national.com/ds/LP/LP3982.pdf; ComponentLink3Description: LP3982 Web Page; ComponentLink3URL: http://www.national.com/pf/LP/LP3982.html; ComponentLink4Description: LDA08C Package Page; ComponentLink4URL: http://www.national.com/packaging/folders/lda08c.html
footprint LDA08C (PSON, 8-Leads, Body 2.5x3mm, Pitch 0.5mm, NSC Recommended)
pins: 1 OUT (power), 2 IN (power), 3 GND (power), 4 OUT (power), 5 NC, 6 CC, 7 ~{SD} (in), 8 ~{FLT} (oc), 9 DAP (power)

## LP3982ILD-3.3/NOPB
designator U?
Micropower, Ultra Low-Dropout, Low-Noise, 300mA CMOS Regulator, 8-pin LLP, Pb-Free; PartNumber: LP3982ILD-3.3/NOPB; Manufacturer: National Semiconductor; PackageTopMarking: XYTT*LUB; PowerWise: N; CompType: LDO IC; High-Reliability: Y; DatasheetVersion: Mar-2006; PackageVersion: revB, Jun-2003; PackageReference: LDA08C; PackageDescription: LLP, Plastic, Dual, 2.5 x 3 x 0.75mm, 8 Lead, 0.5mm Pitch; RoHS: Y; PinCount: 8; Code_JEDEC: MO-229-WDED; ComponentLink1Description: Manufacturer URL; ComponentLink1URL: http://www.national.com/; ComponentLink2Description: LP3982 Datasheet; ComponentLink2URL: http://www.national.com/ds/LP/LP3982.pdf; ComponentLink3Description: LP3982 Web Page; ComponentLink3URL: http://www.national.com/pf/LP/LP3982.html; ComponentLink4Description: LDA08C Package Page; ComponentLink4URL: http://www.national.com/packaging/folders/lda08c.html
footprint LDA08C (PSON, 8-Leads, Body 2.5x3mm, Pitch 0.5mm, NSC Recommended)
pins: 1 OUT (power), 2 IN (power), 3 GND (power), 4 OUT (power), 5 NC, 6 CC, 7 ~{SD} (in), 8 ~{FLT} (oc), 9 DAP (power)

## LP3982ILD-ADJ
designator U?
Micropower, Ultra Low-Dropout, Low-Noise, 300mA CMOS Regulator, 8-pin LLP; PartNumber: LP3982ILD-ADJ; Manufacturer: National Semiconductor; PackageTopMarking: XYTT*LVB; PowerWise: N; CompType: LDO IC; High-Reliability: Y; DatasheetVersion: Mar-2006; PackageVersion: revB, Jun-2003; PackageReference: LDA08C; PackageDescription: LLP, Plastic, Dual, 2.5 x 3 x 0.75mm, 8 Lead, 0.5mm Pitch; RoHS: N; PinCount: 8; Code_JEDEC: MO-229-WDED; ComponentLink1Description: Manufacturer URL; ComponentLink1URL: http://www.national.com/; ComponentLink2Description: LP3982 Datasheet; ComponentLink2URL: http://www.national.com/ds/LP/LP3982.pdf; ComponentLink3Description: LP3982 Web Page; ComponentLink3URL: http://www.national.com/pf/LP/LP3982.html; ComponentLink4Description: LDA08C Package Page; ComponentLink4URL: http://www.national.com/packaging/folders/lda08c.html
footprint LDA08C (PSON, 8-Leads, Body 2.5x3mm, Pitch 0.5mm, NSC Recommended)
pins: 1 OUT (power), 2 IN (power), 3 GND (power), 4 OUT (power), 5 SET, 6 CC, 7 ~{SD} (in), 8 ~{FLT} (oc), 9 DAP (power)

## LP3982ILD-ADJ/NOPB
designator U?
Micropower, Ultra Low-Dropout, Low-Noise, 300mA CMOS Regulator, 8-pin LLP, Pb-Free; PartNumber: LP3982ILD-ADJ/NOPB; Manufacturer: National Semiconductor; PackageTopMarking: XYTT*LVB; PowerWise: N; CompType: LDO IC; High-Reliability: Y; DatasheetVersion: Mar-2006; PackageVersion: revB, Jun-2003; PackageReference: LDA08C; PackageDescription: LLP, Plastic, Dual, 2.5 x 3 x 0.75mm, 8 Lead, 0.5mm Pitch; RoHS: Y; PinCount: 8; Code_JEDEC: MO-229-WDED; ComponentLink1Description: Manufacturer URL; ComponentLink1URL: http://www.national.com/; ComponentLink2Description: LP3982 Datasheet; ComponentLink2URL: http://www.national.com/ds/LP/LP3982.pdf; ComponentLink3Description: LP3982 Web Page; ComponentLink3URL: http://www.national.com/pf/LP/LP3982.html; ComponentLink4Description: LDA08C Package Page; ComponentLink4URL: http://www.national.com/packaging/folders/lda08c.html
footprint LDA08C (PSON, 8-Leads, Body 2.5x3mm, Pitch 0.5mm, NSC Recommended)
pins: 1 OUT (power), 2 IN (power), 3 GND (power), 4 OUT (power), 5 SET, 6 CC, 7 ~{SD} (in), 8 ~{FLT} (oc), 9 DAP (power)

## LP3982ILDX-1.8
designator U?
Micropower, Ultra Low-Dropout, Low-Noise, 300mA CMOS Regulator, 8-pin LLP; PartNumber: LP3982ILDX-1.8; Manufacturer: National Semiconductor; PackageTopMarking: XYTT*LNB; PowerWise: N; CompType: LDO IC; High-Reliability: Y; DatasheetVersion: Mar-2006; PackageVersion: revB, Jun-2003; PackageReference: LDA08C; PackageDescription: LLP, Plastic, Dual, 2.5 x 3 x 0.75mm, 8 Lead, 0.5mm Pitch; RoHS: N; PinCount: 8; Code_JEDEC: MO-229-WDED; ComponentLink1Description: Manufacturer URL; ComponentLink1URL: http://www.national.com/; ComponentLink2Description: LP3982 Datasheet; ComponentLink2URL: http://www.national.com/ds/LP/LP3982.pdf; ComponentLink3Description: LP3982 Web Page; ComponentLink3URL: http://www.national.com/pf/LP/LP3982.html; ComponentLink4Description: LDA08C Package Page; ComponentLink4URL: http://www.national.com/packaging/folders/lda08c.html
footprint LDA08C (PSON, 8-Leads, Body 2.5x3mm, Pitch 0.5mm, NSC Recommended)
pins: 1 OUT (power), 2 IN (power), 3 GND (power), 4 OUT (power), 5 NC, 6 CC, 7 ~{SD} (in), 8 ~{FLT} (oc), 9 DAP (power)

## LP3982ILDX-1.8/NOPB
designator U?
Micropower, Ultra Low-Dropout, Low-Noise, 300mA CMOS Regulator, 8-pin LLP, Pb-Free; PartNumber: LP3982ILDX-1.8/NOPB; Manufacturer: National Semiconductor; PackageTopMarking: XYTT*LNB; PowerWise: N; CompType: LDO IC; High-Reliability: Y; DatasheetVersion: Mar-2006; PackageVersion: revB, Jun-2003; PackageReference: LDA08C; PackageDescription: LLP, Plastic, Dual, 2.5 x 3 x 0.75mm, 8 Lead, 0.5mm Pitch; RoHS: Y; PinCount: 8; Code_JEDEC: MO-229-WDED; ComponentLink1Description: Manufacturer URL; ComponentLink1URL: http://www.national.com/; ComponentLink2Description: LP3982 Datasheet; ComponentLink2URL: http://www.national.com/ds/LP/LP3982.pdf; ComponentLink3Description: LP3982 Web Page; ComponentLink3URL: http://www.national.com/pf/LP/LP3982.html; ComponentLink4Description: LDA08C Package Page; ComponentLink4URL: http://www.national.com/packaging/folders/lda08c.html
footprint LDA08C (PSON, 8-Leads, Body 2.5x3mm, Pitch 0.5mm, NSC Recommended)
pins: 1 OUT (power), 2 IN (power), 3 GND (power), 4 OUT (power), 5 NC, 6 CC, 7 ~{SD} (in), 8 ~{FLT} (oc), 9 DAP (power)

## LP3982ILDX-3.0
designator U?
Micropower, Ultra Low-Dropout, Low-Noise, 300mA CMOS Regulator, 8-pin LLP; PartNumber: LP3982ILDX-3.0; Manufacturer: National Semiconductor; PackageTopMarking: XYTT*LTB; PowerWise: N; CompType: LDO IC; High-Reliability: Y; DatasheetVersion: Mar-2006; PackageVersion: revB, Jun-2003; PackageReference: LDA08C; PackageDescription: LLP, Plastic, Dual, 2.5 x 3 x 0.75mm, 8 Lead, 0.5mm Pitch; RoHS: N; PinCount: 8; Code_JEDEC: MO-229-WDED; ComponentLink1Description: Manufacturer URL; ComponentLink1URL: http://www.national.com/; ComponentLink2Description: LP3982 Datasheet; ComponentLink2URL: http://www.national.com/ds/LP/LP3982.pdf; ComponentLink3Description: LP3982 Web Page; ComponentLink3URL: http://www.national.com/pf/LP/LP3982.html; ComponentLink4Description: LDA08C Package Page; ComponentLink4URL: http://www.national.com/packaging/folders/lda08c.html
footprint LDA08C (PSON, 8-Leads, Body 2.5x3mm, Pitch 0.5mm, NSC Recommended)
pins: 1 OUT (power), 2 IN (power), 3 GND (power), 4 OUT (power), 5 NC, 6 CC, 7 ~{SD} (in), 8 ~{FLT} (oc), 9 DAP (power)